# EAGLE library part SST26VF032 (library ACB)
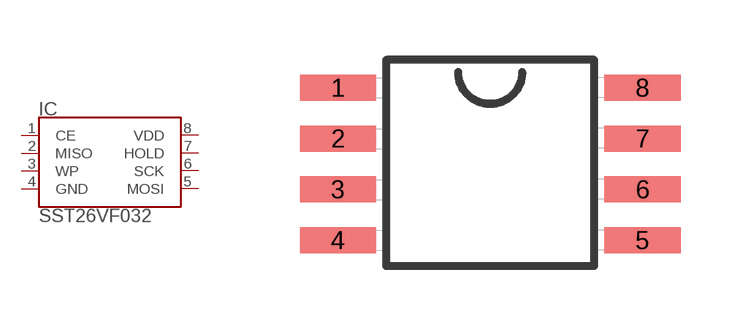
[diagram p0: symbol with the pads of SOIJ-08; footprint SOIJ-08]

Designator prefix IC

## SST26VF032_SOIJ  [SOIJ-08]
1  CE
2  MISO
3  WP
4  GND
5  MOSI
6  SCK
7  HOLD
8  VDD

## Footprint SOIJ-08 (pad centres in mm)
SOIJ-08 Pady jsou v mil/12.5 rozmery nejsou overeny se skutecnosti Rozměry plošek podle http://ww1.microchip.com/downloads/en/PackagingSpec/00049AU.pdf Hořa 5.6.2017
smd 1.905 x 0.65: 1 -3.81,1.905; 2 -3.81,0.635; 3 -3.81,-0.635; 4 -3.81,-1.905; 5 3.81,-1.905; 6 3.81,-0.635; 7 3.81,0.635; 8 3.81,1.905